# EAGLE library part STM32N657X0H3Q (library STM32N657X0H3Q)
High performance Arm Cortex-M55 MCU, 800MHz, 4.2MB SRAM, Neural-ART accelerator 600 GOPS, NeoChrom GPU, JPEG Codec, H-264 enc, HW crypto Source: Datasheet <https://www.st.com/resource/en/datasheet/stm32n657a0.pdf>
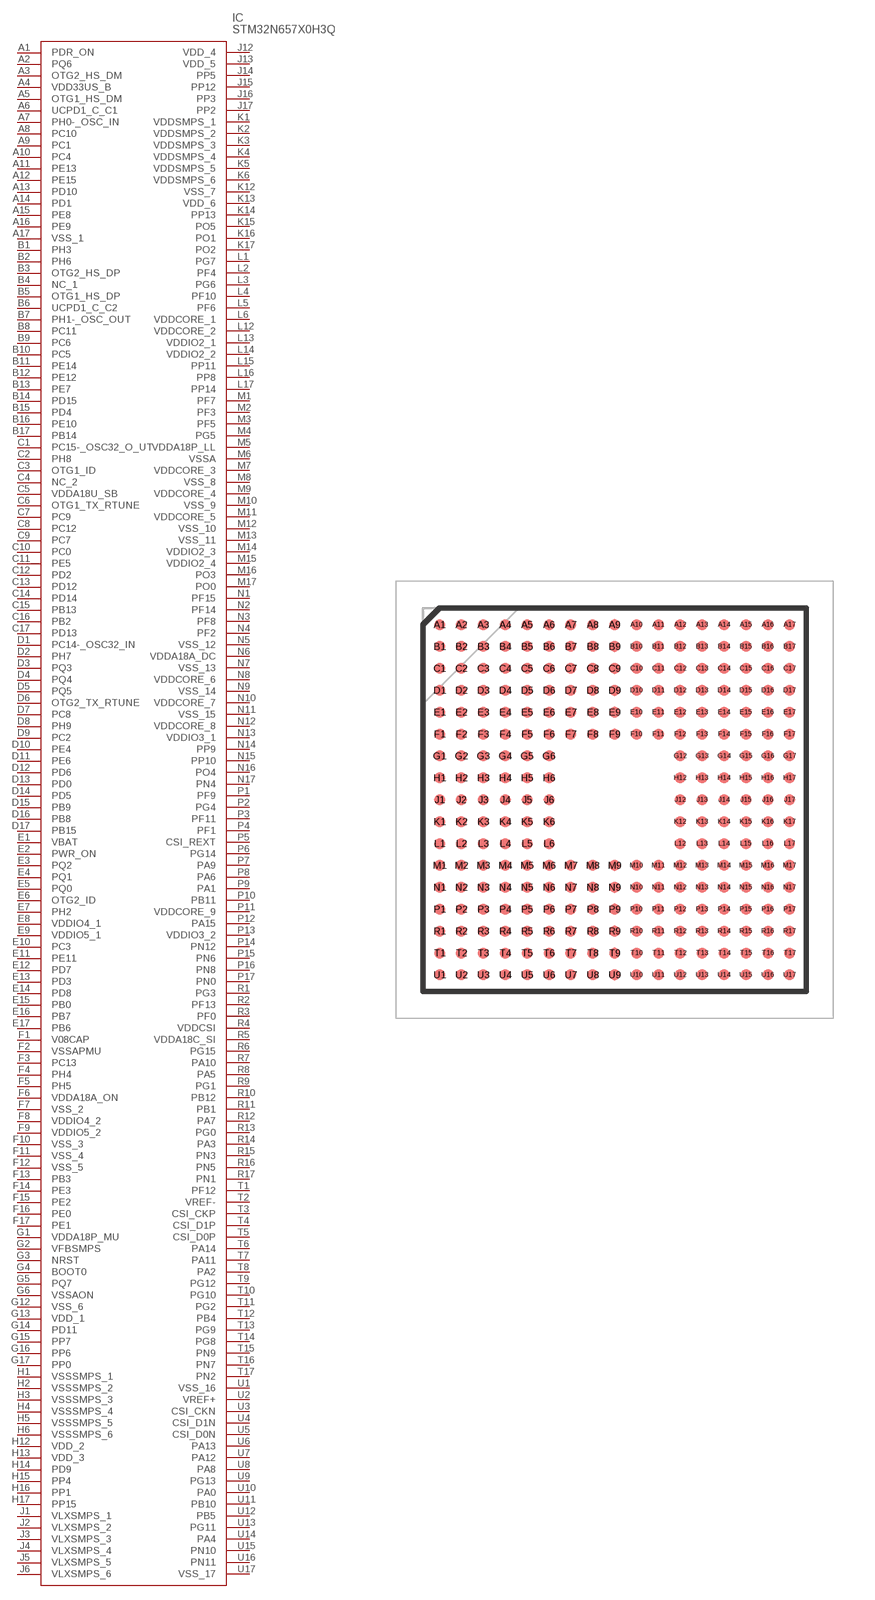
[diagram p0: symbol with the pads of BGA264C80P17X17_1400X1400X100; footprint BGA264C80P17X17_1400X1400X100]

Designator prefix IC

## STM32N657X0H3Q (Description: High performance Arm Cortex-M55 MCU, 800MHz, 4.2MB SRAM, Neural-ART accelerator 600 GOPS, NeoChrom GPU, JPEG Codec, H-264 enc, HW crypto; Height: 1mm; Manufacturer_Name: STMicroelectronics; Manufacturer_Part_Number: STM32N657X0H3Q; Mouser_Part_Number: 511-STM32N657X0H3Q; Mouser_Price-Stock: https://www.mouser.co.uk/ProductDetail/STMicroelectronics/STM32N657X0H3Q?qs=%252BXxaIXUDbq0JgAtfYs%252BpjA%3D%3D)  [BGA264C80P17X17_1400X1400X100]
A1  PDR_ON
A2  PQ6
A3  OTG2_HS_DM
A4  VDD33US_B
A5  OTG1_HS_DM
A6  UCPD1_C_C1
A7  PH0-_OSC_IN
A8  PC10
A9  PC1
A10  PC4
A11  PE13
A12  PE15
A13  PD10
A14  PD1
A15  PE8
A16  PE9
A17  VSS_1
B1  PH3
B2  PH6
B3  OTG2_HS_DP
B4  NC_1
B5  OTG1_HS_DP
B6  UCPD1_C_C2
B7  PH1-_OSC_OUT
B8  PC11
B9  PC6
B10  PC5
B11  PE14
B12  PE12
B13  PE7
B14  PD15
B15  PD4
B16  PE10
B17  PB14
C1  PC15-_OSC32_O_UT
C2  PH8
C3  OTG1_ID
C4  NC_2
C5  VDDA18U_SB
C6  OTG1_TX_RTUNE
C7  PC9
C8  PC12
C9  PC7
C10  PC0
C11  PE5
C12  PD2
C13  PD12
C14  PD14
C15  PB13
C16  PB2
C17  PD13
D1  PC14-_OSC32_IN
D2  PH7
D3  PQ3
D4  PQ4
D5  PQ5
D6  OTG2_TX_RTUNE
D7  PC8
D8  PH9
D9  PC2
D10  PE4
D11  PE6
D12  PD6
D13  PD0
D14  PD5
D15  PB9
D16  PB8
D17  PB15
E1  VBAT
E2  PWR_ON
E3  PQ2
E4  PQ1
E5  PQ0
E6  OTG2_ID
E7  PH2
E8  VDDIO4_1
E9  VDDIO5_1
E10  PC3
E11  PE11
E12  PD7
E13  PD3
E14  PD8
E15  PB0
E16  PB7
E17  PB6
F1  V08CAP
F2  VSSAPMU
F3  PC13
F4  PH4
F5  PH5
F6  VDDA18A_ON
F7  VSS_2
F8  VDDIO4_2
F9  VDDIO5_2
F10  VSS_3
F11  VSS_4
F12  VSS_5
F13  PB3
F14  PE3
F15  PE2
F16  PE0
F17  PE1
G1  VDDA18P_MU
G2  VFBSMPS
G3  NRST
G4  BOOT0
G5  PQ7
G6  VSSAON
G12  VSS_6
G13  VDD_1
G14  PD11
G15  PP7
G16  PP6
G17  PP0
H1  VSSSMPS_1
H2  VSSSMPS_2
H3  VSSSMPS_3
H4  VSSSMPS_4
H5  VSSSMPS_5
H6  VSSSMPS_6
H12  VDD_2
H13  VDD_3
H14  PD9
H15  PP4
H16  PP1
H17  PP15
J1  VLXSMPS_1
J2  VLXSMPS_2
J3  VLXSMPS_3
J4  VLXSMPS_4
J5  VLXSMPS_5
J6  VLXSMPS_6
J12  VDD_4
J13  VDD_5
J14  PP5
J15  PP12
J16  PP3
J17  PP2
K1  VDDSMPS_1
K2  VDDSMPS_2
K3  VDDSMPS_3
K4  VDDSMPS_4
K5  VDDSMPS_5
K6  VDDSMPS_6
K12  VSS_7
K13  VDD_6
K14  PP13
K15  PO5
K16  PO1
K17  PO2
L1  PG7
L2  PF4
L3  PG6
L4  PF10
L5  PF6
L6  VDDCORE_1
L12  VDDCORE_2
L13  VDDIO2_1
L14  VDDIO2_2
L15  PP11
L16  PP8
L17  PP14
M1  PF7
M2  PF3
M3  PF5
M4  PG5
M5  VDDA18P_LL
M6  VSSA
M7  VDDCORE_3
M8  VSS_8
M9  VDDCORE_4
M10  VSS_9
M11  VDDCORE_5
M12  VSS_10
M13  VSS_11
M14  VDDIO2_3
M15  VDDIO2_4
M16  PO3
M17  PO0
N1  PF15
N2  PF14
N3  PF8
N4  PF2
N5  VSS_12
N6  VDDA18A_DC
N7  VSS_13
N8  VDDCORE_6
N9  VSS_14
N10  VDDCORE_7
N11  VSS_15
N12  VDDCORE_8
N13  VDDIO3_1
N14  PP9
N15  PP10
N16  PO4
N17  PN4
P1  PF9
P2  PG4
P3  PF11
P4  PF1
P5  CSI_REXT
P6  PG14
P7  PA9
P8  PA6
P9  PA1
P10  PB11
P11  VDDCORE_9
P12  PA15
P13  VDDIO3_2
P14  PN12
P15  PN6
P16  PN8
P17  PN0
R1  PG3
R2  PF13
R3  PF0
R4  VDDCSI
R5  VDDA18C_SI
R6  PG15
R7  PA10
R8  PA5
R9  PG1
R10  PB12
R11  PB1
R12  PA7
R13  PG0
R14  PA3
R15  PN3
R16  PN5
R17  PN1
T1  PF12
T2  VREF-
T3  CSI_CKP
T4  CSI_D1P
T5  CSI_D0P
T6  PA14
T7  PA11
T8  PA2
T9  PG12
T10  PG10
T11  PG2
T12  PB4
T13  PG9
T14  PG8
T15  PN9
T16  PN7
T17  PN2
U1  VSS_16
U2  VREF+
U3  CSI_CKN
U4  CSI_D1N
U5  CSI_D0N
U6  PA13
U7  PA12
U8  PA8
U9  PG13
U10  PA0
U11  PB10
U12  PB5
U13  PG11
U14  PA4
U15  PN10
U16  PN11
U17  VSS_17

## Footprint BGA264C80P17X17_1400X1400X100 (pad centres in mm)
STM32N647X0H3Q
smd 0.394 x 0.394: A1 -6.4,6.4; A2 -5.6,6.4; A3 -4.8,6.4; A4 -4,6.4; A5 -3.2,6.4; A6 -2.4,6.4; A7 -1.6,6.4; A8 -0.8,6.4; A9 0,6.4; A10 0.8,6.4; A11 1.6,6.4; A12 2.4,6.4; A13 3.2,6.4; A14 4,6.4; A15 4.8,6.4; A16 5.6,6.4; A17 6.4,6.4; B1 -6.4,5.6; B2 -5.6,5.6; B3 -4.8,5.6; B4 -4,5.6; B5 -3.2,5.6; B6 -2.4,5.6; B7 -1.6,5.6; B8 -0.8,5.6; B9 0,5.6; B10 0.8,5.6; B11 1.6,5.6; B12 2.4,5.6; B13 3.2,5.6; B14 4,5.6; B15 4.8,5.6; B16 5.6,5.6; B17 6.4,5.6; C1 -6.4,4.8; C2 -5.6,4.8; C3 -4.8,4.8; C4 -4,4.8; C5 -3.2,4.8; C6 -2.4,4.8; C7 -1.6,4.8; C8 -0.8,4.8; C9 0,4.8; C10 0.8,4.8; C11 1.6,4.8; C12 2.4,4.8; C13 3.2,4.8; C14 4,4.8; C15 4.8,4.8; C16 5.6,4.8; C17 6.4,4.8; D1 -6.4,4; D2 -5.6,4; D3 -4.8,4; D4 -4,4; D5 -3.2,4; D6 -2.4,4; D7 -1.6,4; D8 -0.8,4; D9 0,4; D10 0.8,4; D11 1.6,4; D12 2.4,4; D13 3.2,4; D14 4,4; D15 4.8,4; D16 5.6,4; D17 6.4,4; E1 -6.4,3.2; E2 -5.6,3.2; E3 -4.8,3.2; E4 -4,3.2; E5 -3.2,3.2; E6 -2.4,3.2; E7 -1.6,3.2; E8 -0.8,3.2; E9 0,3.2; E10 0.8,3.2; E11 1.6,3.2; E12 2.4,3.2; E13 3.2,3.2; E14 4,3.2; E15 4.8,3.2; E16 5.6,3.2; E17 6.4,3.2; F1 -6.4,2.4; F2 -5.6,2.4; F3 -4.8,2.4; F4 -4,2.4; F5 -3.2,2.4; F6 -2.4,2.4; F7 -1.6,2.4; F8 -0.8,2.4; F9 0,2.4; F10 0.8,2.4; F11 1.6,2.4; F12 2.4,2.4; F13 3.2,2.4; F14 4,2.4; F15 4.8,2.4; F16 5.6,2.4; F17 6.4,2.4; G1 -6.4,1.6; G2 -5.6,1.6; G3 -4.8,1.6; G4 -4,1.6; G5 -3.2,1.6; G6 -2.4,1.6; G12 2.4,1.6; G13 3.2,1.6; G14 4,1.6; G15 4.8,1.6; G16 5.6,1.6; G17 6.4,1.6; H1 -6.4,0.8; H2 -5.6,0.8; H3 -4.8,0.8; H4 -4,0.8; H5 -3.2,0.8; H6 -2.4,0.8; H12 2.4,0.8; H13 3.2,0.8; H14 4,0.8; H15 4.8,0.8; H16 5.6,0.8; H17 6.4,0.8; J1 -6.4,0; J2 -5.6,0; J3 -4.8,0; J4 -4,0; J5 -3.2,0; J6 -2.4,0; J12 2.4,0; J13 3.2,0; J14 4,0; J15 4.8,0; J16 5.6,0; J17 6.4,0; K1 -6.4,-0.8; K2 -5.6,-0.8; K3 -4.8,-0.8; K4 -4,-0.8; K5 -3.2,-0.8; K6 -2.4,-0.8; K12 2.4,-0.8; K13 3.2,-0.8; K14 4,-0.8; K15 4.8,-0.8; K16 5.6,-0.8; K17 6.4,-0.8; L1 -6.4,-1.6; L2 -5.6,-1.6; L3 -4.8,-1.6; L4 -4,-1.6; L5 -3.2,-1.6; L6 -2.4,-1.6; L12 2.4,-1.6; L13 3.2,-1.6; L14 4,-1.6; L15 4.8,-1.6; L16 5.6,-1.6; L17 6.4,-1.6; M1 -6.4,-2.4; M2 -5.6,-2.4; M3 -4.8,-2.4; M4 -4,-2.4; M5 -3.2,-2.4; M6 -2.4,-2.4; M7 -1.6,-2.4; M8 -0.8,-2.4; M9 0,-2.4; M10 0.8,-2.4; M11 1.6,-2.4; M12 2.4,-2.4; M13 3.2,-2.4; M14 4,-2.4; M15 4.8,-2.4; M16 5.6,-2.4; M17 6.4,-2.4; N1 -6.4,-3.2; N2 -5.6,-3.2; N3 -4.8,-3.2; N4 -4,-3.2; N5 -3.2,-3.2; N6 -2.4,-3.2; N7 -1.6,-3.2; N8 -0.8,-3.2; N9 0,-3.2; N10 0.8,-3.2; N11 1.6,-3.2; N12 2.4,-3.2; N13 3.2,-3.2; N14 4,-3.2; N15 4.8,-3.2; N16 5.6,-3.2; N17 6.4,-3.2; P1 -6.4,-4; P2 -5.6,-4; P3 -4.8,-4; P4 -4,-4; P5 -3.2,-4; P6 -2.4,-4; P7 -1.6,-4; P8 -0.8,-4; P9 0,-4; P10 0.8,-4; P11 1.6,-4; P12 2.4,-4; P13 3.2,-4; P14 4,-4; P15 4.8,-4; P16 5.6,-4; P17 6.4,-4; R1 -6.4,-4.8; R2 -5.6,-4.8; R3 -4.8,-4.8; R4 -4,-4.8; R5 -3.2,-4.8; R6 -2.4,-4.8; R7 -1.6,-4.8; R8 -0.8,-4.8; R9 0,-4.8; R10 0.8,-4.8; R11 1.6,-4.8; R12 2.4,-4.8; R13 3.2,-4.8; R14 4,-4.8; R15 4.8,-4.8; R16 5.6,-4.8; R17 6.4,-4.8; T1 -6.4,-5.6; T2 -5.6,-5.6; T3 -4.8,-5.6; T4 -4,-5.6; T5 -3.2,-5.6; T6 -2.4,-5.6; T7 -1.6,-5.6; T8 -0.8,-5.6; T9 0,-5.6; T10 0.8,-5.6; T11 1.6,-5.6; T12 2.4,-5.6; T13 3.2,-5.6; T14 4,-5.6; T15 4.8,-5.6; T16 5.6,-5.6; T17 6.4,-5.6; U1 -6.4,-6.4; U2 -5.6,-6.4; U3 -4.8,-6.4; U4 -4,-6.4; U5 -3.2,-6.4; U6 -2.4,-6.4; U7 -1.6,-6.4; U8 -0.8,-6.4; U9 0,-6.4; U10 0.8,-6.4; U11 1.6,-6.4; U12 2.4,-6.4; U13 3.2,-6.4; U14 4,-6.4; U15 4.8,-6.4; U16 5.6,-6.4; U17 6.4,-6.4